# EAGLE library part DL-LN32P (library tmxk)
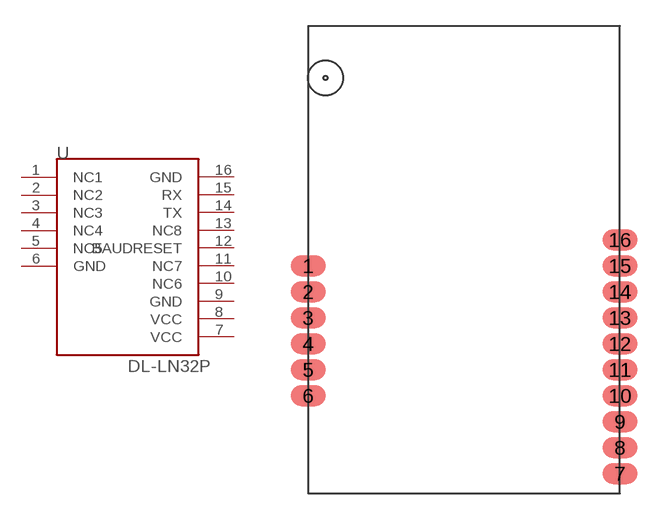
[diagram p15: symbol with the pads of DL-LN32P; footprint DL-LN32P]

Designator prefix U

## DL-LN32P  [DL-LN32P]
1  NC1
2  NC2
3  NC3
4  NC4
5  NC5
6  GND
7  VCC
8  VCC
9  GND
10  NC6
11  NC7
12  BAUDRESET
13  NC8
14  TX
15  RX
16  GND

## Footprint DL-LN32P (pad centres in mm)
smd 2 x 1.2: 1 -8.89,0.45; 2 -8.89,-1.05; 3 -8.89,-2.55; 4 -8.89,-4.05; 5 -8.89,-5.55; 6 -8.89,-7.05; 7 9.11,-11.55; 8 9.11,-10.05; 9 9.11,-8.55; 10 9.11,-7.05; 11 9.11,-5.55; 12 9.11,-4.05; 13 9.11,-2.55; 14 9.11,-1.05; 15 9.11,0.45; 16 9.11,1.95